# Altium schematic symbol library MAX98357AETE.SchLib: 1 symbol
Pins are listed as number, name and electrical type; pins without a type are passive.

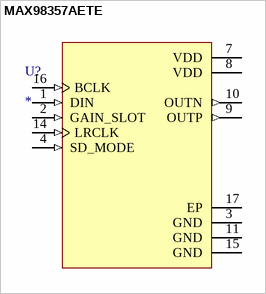
[diagram p0: symbol MAX98357AETE]

## MAX98357AETE
designator U?
Value: *
pins: 1 DIN (in), 2 GAIN_SLOT (in), 3 GND (power), 4 SD_MODE (in), 7 VDD (power), 8 VDD (power), 9 OUTP (out), 10 OUTN (out), 11 GND (power), 14 LRCLK (in), 15 GND (power), 16 BCLK (in), 17 EP (power)